# Altium schematic symbol library Ultrascale_SchLib.SchLib: 186 symbols (part 4 of 4)
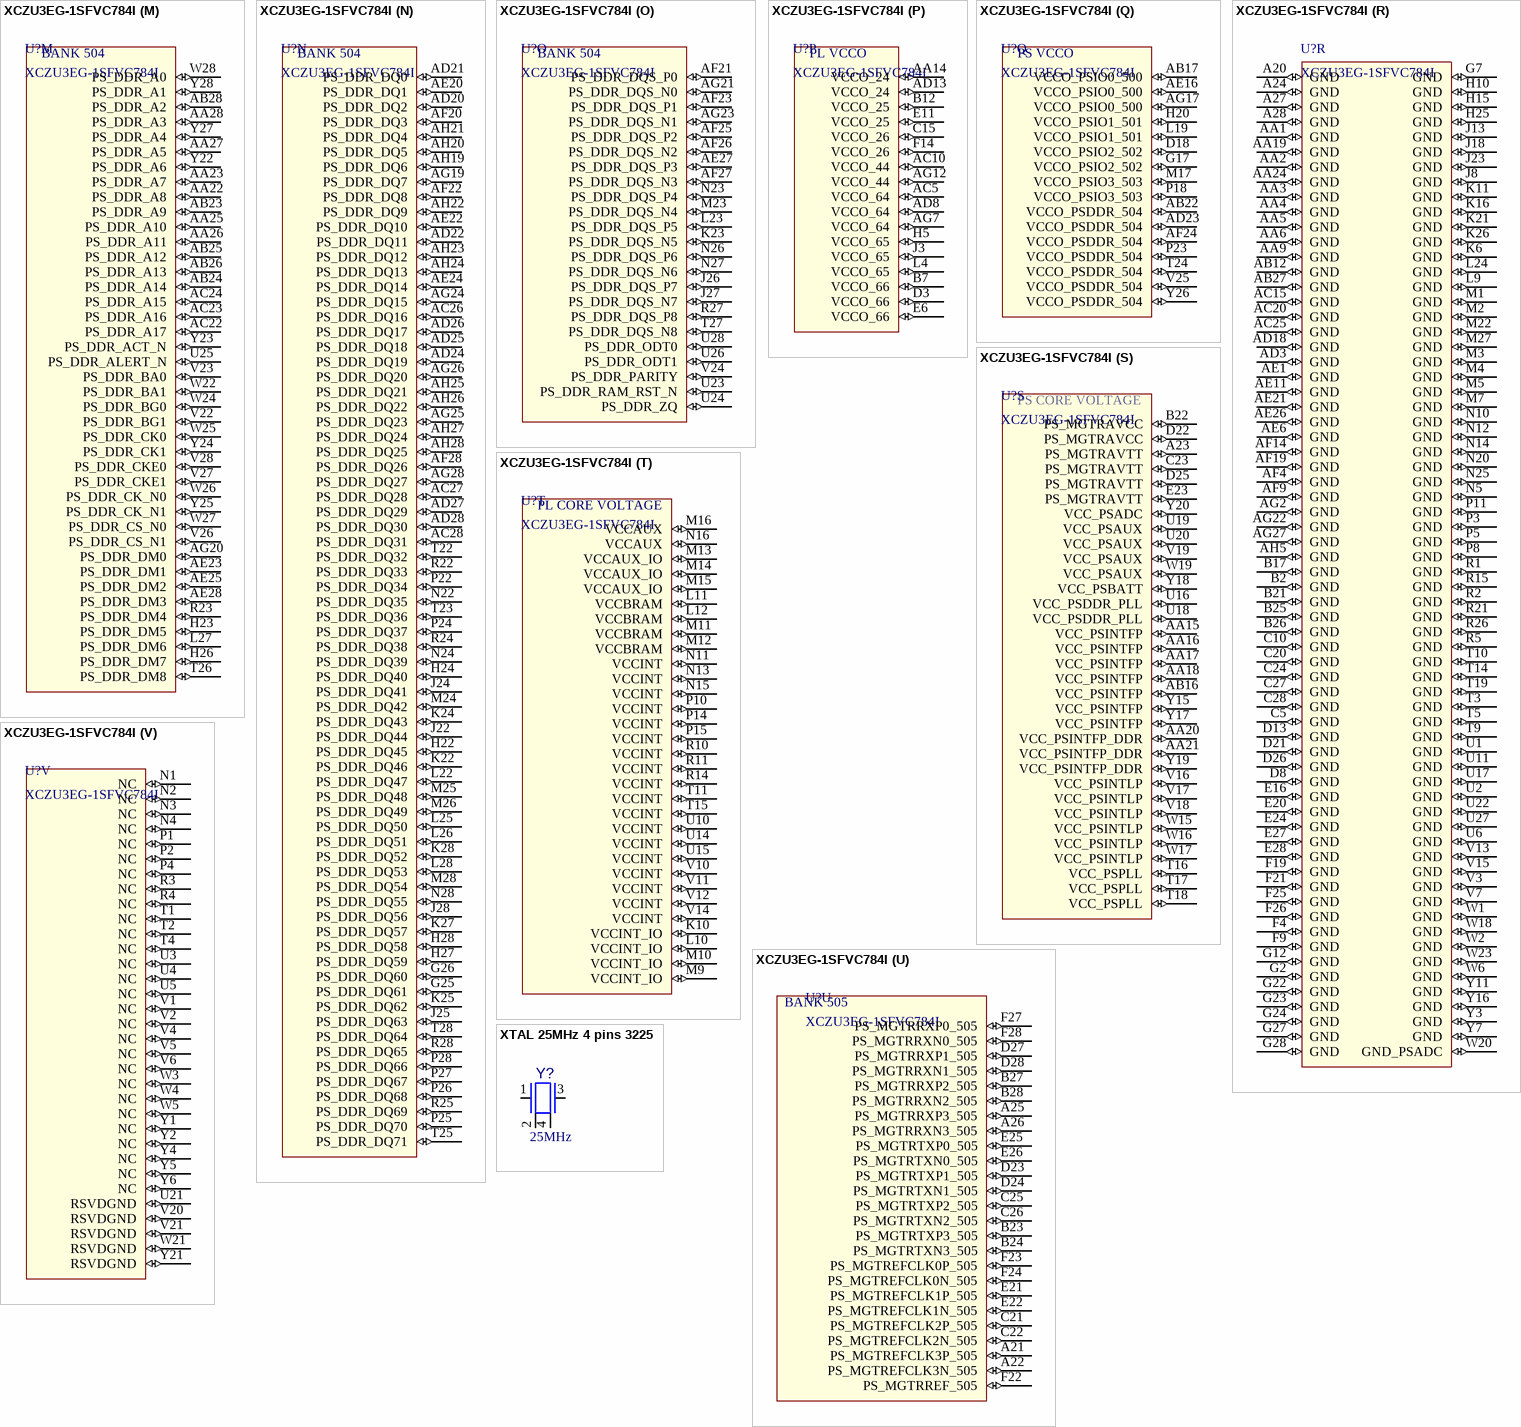
[diagram p11: symbols XCZU3EG-1SFVC784I to XTAL 25MHz 4 pins 3225]

## XCZU3EG-1SFVC784I
designator U?
IC FPGA 252 I/O 784FCBGA - XILINX ZYNQ ULTRASCALE+; Manufacturer 1: Xilinx Inc.; Package: SFVC784; ComponentLink1Description: Datasheet; Supplier 1: Digi-Key; Supplier Part Number 1: XCZU3EG-1SFVC784I-ND; Manufacturer Part Number 1: XCZU3EG-1SFVC784I
footprint BGA784x28
part A pins: P12 VCCADC (io), P13 GNDADC (io), R12 VREFN (io), R13 VP (io), T12 VN (io), T13 VREFP (io), U7 PUDC_B (io), U12 DXN (io), U13 DXP (io), W7 POR_OVERRIDE (io)
part B pins: A13 IO_L3N_AD9N_26 (io), A14 IO_L2N_AD10N_26 (io), A15 IO_L1N_AD11N_26 (io), B13 IO_L3P_AD9P_26 (io), B14 IO_L2P_AD10P_26 (io), B15 IO_L1P_AD11P_26 (io), C13 IO_L4N_AD8N_26 (io), C14 IO_L4P_AD8P_26 (io), D14 IO_L5N_HDGC_AD7N_26 (io), D15 IO_L5P_HDGC_AD7P_26 (io), E13 IO_L6N_HDGC_AD6N_26 (io), E14 IO_L6P_HDGC_AD6P_26 (io), E15 IO_L8N_HDGC_AD4N_26 (io), F13 IO_L7N_HDGC_AD5N_26 (io), F15 IO_L8P_HDGC_AD4P_26 (io), G13 IO_L7P_HDGC_AD5P_26 (io), G14 IO_L9N_AD3N_26 (io), G15 IO_L9P_AD3P_26 (io), H13 IO_L10N_AD2N_26 (io), H14 IO_L10P_AD2P_26 (io), J14 IO_L11N_AD1N_26 (io), K14 IO_L11P_AD1P_26 (io), L13 IO_L12N_AD0N_26 (io), L14 IO_L12P_AD0P_26 (io)
part C pins: A10 IO_L10N_AD10N_25 (io), A11 IO_L11N_AD9N_25 (io), A12 IO_L11P_AD9P_25 (io), B10 IO_L9N_AD11N_25 (io), B11 IO_L10P_AD10P_25 (io), C11 IO_L9P_AD11P_25 (io), C12 IO_L12N_AD8N_25 (io), D10 IO_L7N_HDGC_25 (io), D11 IO_L8N_HDGC_25 (io), D12 IO_L12P_AD8P_25 (io), E10 IO_L7P_HDGC_25 (io), E12 IO_L8P_HDGC_25 (io), F10 IO_L5N_HDGC_25 (io), F11 IO_L6N_HDGC_25 (io), F12 IO_L6P_HDGC_25 (io), G10 IO_L3N_AD13N_25 (io), G11 IO_L5P_HDGC_25 (io), H11 IO_L3P_AD13P_25 (io), H12 IO_L4N_AD12N_25 (io), J10 IO_L1N_AD15N_25 (io), J11 IO_L1P_AD15P_25 (io), J12 IO_L4P_AD12P_25 (io), K12 IO_L2N_AD14N_25 (io), K13 IO_L2P_AD14P_25 (io)
part D pins: AA12 IO_L12N_AD8N_24 (io), AA13 IO_L7P_HDGC_24 (io), AB13 IO_L7N_HDGC_24 (io), AB14 IO_L8N_HDGC_24 (io), AB15 IO_L8P_HDGC_24 (io), AC13 IO_L6N_HDGC_24 (io), AC14 IO_L6P_HDGC_24 (io), AD14 IO_L5N_HDGC_24 (io), AD15 IO_L5P_HDGC_24 (io), AE13 IO_L4P_AD12P_24 (io), AE14 IO_L1N_AD15N_24 (io), AE15 IO_L1P_AD15P_24 (io), AF13 IO_L4N_AD12N_24 (io), AG13 IO_L3P_AD13P_24 (io), AG14 IO_L2P_AD14P_24 (io), AH13 IO_L3N_AD13N_24 (io), AH14 IO_L2N_AD14N_24 (io), W11 IO_L11N_AD9N_24 (io), W12 IO_L11P_AD9P_24 (io), W13 IO_L9N_AD11N_24 (io), W14 IO_L9P_AD11P_24 (io), Y12 IO_L12P_AD8P_24 (io), Y13 IO_L10N_AD10N_24 (io), Y14 IO_L10P_AD10P_24 (io)
part E pins: AA8 IO_L11N_AD1N_44 (io), AA10 IO_L9N_AD3N_44 (io), AA11 IO_L9P_AD3P_44 (io), AB9 IO_L12N_AD0N_44 (io), AB10 IO_L12P_AD0P_44 (io), AB11 IO_L8P_HDGC_AD4P_44 (io), AC11 IO_L8N_HDGC_AD4N_44 (io), AC12 IO_L6P_HDGC_AD6P_44 (io), AD10 IO_L7N_HDGC_AD5N_44 (io), AD11 IO_L7P_HDGC_AD5P_44 (io), AD12 IO_L6N_HDGC_AD6N_44 (io), AE10 IO_L4P_AD8P_44 (io), AE12 IO_L5P_HDGC_AD7P_44 (io), AF10 IO_L4N_AD8N_44 (io), AF11 IO_L2P_AD10P_44 (io), AF12 IO_L5N_HDGC_AD7N_44 (io), AG10 IO_L1P_AD11P_44 (io), AG11 IO_L2N_AD10N_44 (io), AH10 IO_L1N_AD11N_44 (io), AH11 IO_L3N_AD9N_44 (io), AH12 IO_L3P_AD9P_44 (io), W10 IO_L10P_AD2P_44 (io), Y9 IO_L11P_AD1P_44 (io), Y10 IO_L10N_AD2N_44 (io)
part F pins: A1 IO_L8N_T1L_N3_AD5N_66 (io), A2 IO_L8P_T1L_N2_AD5P_66 (io), A3 IO_L9N_T1L_N5_AD12N_66 (io), A4 IO_L10N_T1U_N7_QBC_AD4N_66 (io), A5 IO_L19N_T3L_N1_DBC_AD9N_66 (io), A6 IO_L21N_T3L_N5_AD8N_66 (io), A7 IO_L21P_T3L_N4_AD8P_66 (io), A8 IO_L23N_T3U_N9_66 (io), A9 IO_L23P_T3U_N8_66 (io), B1 IO_L7N_T1L_N1_QBC_AD13N_66 (io), B3 IO_L9P_T1L_N4_AD12P_66 (io), B4 IO_L10P_T1U_N6_QBC_AD4P_66 (io), B5 IO_L19P_T3L_N0_DBC_AD9P_66 (io), B6 IO_L20N_T3L_N3_AD1N_66 (io), B8 IO_L22N_T3U_N7_DBC_AD0N_66 (io), B9 IO_L24N_T3U_N11_66 (io), C1 IO_L7P_T1L_N0_QBC_AD13P_66 (io), C2 IO_L12N_T1U_N11_GC_66 (io), C3 IO_L12P_T1U_N10_GC_66 (io), C4 IO_L11N_T1U_N9_GC_66 (io), C6 IO_L20P_T3L_N2_AD1P_66 (io), C7 IO_T3U_N12_66 (io), C8 IO_L22P_T3U_N6_DBC_AD0P_66 (io), C9 IO_L24P_T3U_N10_66 (io), D1 IO_L2N_T0L_N3_66 (io), D2 IO_T1U_N12_66 (io), D4 IO_L11P_T1U_N8_GC_66 (io), D5 IO_L14N_T2L_N3_GC_66 (io), D6 IO_L13N_T2L_N1_GC_QBC_66 (io), D7 IO_L13P_T2L_N0_GC_QBC_66 (io), D9 IO_L18N_T2U_N11_AD2N_66 (io), E1 IO_L2P_T0L_N2_66 (io), E2 IO_L3N_T0L_N5_AD15N_66 (io), E3 IO_L5N_T0U_N9_AD14N_66 (io), E4 IO_L5P_T0U_N8_AD14P_66 (io), E5 IO_L14P_T2L_N2_GC_66 (io), E7 IO_T2U_N12_66 (io), E8 IO_L17N_T2U_N9_AD10N_66 (io), E9 IO_L18P_T2U_N10_AD2P_66 (io), F1 IO_L1N_T0L_N1_DBC_66 (io), F2 IO_L3P_T0L_N4_AD15P_66 (io), F3 IO_L4N_T0U_N7_DBC_AD7N_66 (io), F5 IO_L6N_T0U_N11_AD6N_66 (io), F6 IO_L15N_T2L_N5_AD11N_66 (io), F7 IO_L16N_T2U_N7_QBC_AD3N_66 (io), F8 IO_L17P_T2U_N8_AD10P_66 (io), G1 IO_L1P_T0L_N0_DBC_66 (io), G3 IO_L4P_T0U_N6_DBC_AD7P_66 (io), G4 IO_T0U_N12_VRP_66 (io), G5 IO_L6P_T0U_N10_AD6P_66 (io), G6 IO_L15P_T2L_N4_AD11P_66 (io), G8 IO_L16P_T2U_N6_QBC_AD3P_66 (io), G9 VREF_66 (io)
part G pins: H1 IO_L8N_T1L_N3_AD5N_65 (io), H2 IO_T1U_N12_65 (io), H3 IO_L10N_T1U_N7_QBC_AD4N_65 (io), H4 IO_L10P_T1U_N6_QBC_AD4P_65 (io), H6 IO_L20N_T3L_N3_AD1N_65 (io), H7 IO_L21N_T3L_N5_AD8N_65 (io), H8 IO_L24N_T3U_N11_PERSTN0_65 (io), H9 IO_L24P_T3U_N10_PERSTN1_I2C_SDA_65 (io), J1 IO_L8P_T1L_N2_AD5P_65 (io), J2 IO_L9N_T1L_N5_AD12N_65 (io), J4 IO_L19N_T3L_N1_DBC_AD9N_65 (io), J5 IO_L19P_T3L_N0_DBC_AD9P_65 (io), J6 IO_L20P_T3L_N2_AD1P_65 (io), J7 IO_L21P_T3L_N4_AD8P_65 (io), J9 IO_L23N_T3U_N9_65 (io), K1 IO_L7N_T1L_N1_QBC_AD13N_65 (io), K2 IO_L9P_T1L_N4_AD12P_65 (io), K3 IO_L11N_T1U_N9_GC_65 (io), K4 IO_L11P_T1U_N8_GC_65 (io), K5 IO_T3U_N12_65 (io), K7 IO_L22N_T3U_N7_DBC_AD0N_65 (io), K8 IO_L22P_T3U_N6_DBC_AD0P_65 (io), K9 IO_L23P_T3U_N8_I2C_SCLK_65 (io), L1 IO_L7P_T1L_N0_QBC_AD13P_65 (io), L2 IO_L12N_T1U_N11_GC_65 (io), L3 IO_L12P_T1U_N10_GC_65 (io), L5 IO_L14N_T2L_N3_GC_65 (io), L6 IO_L13N_T2L_N1_GC_QBC_65 (io), L7 IO_L13P_T2L_N0_GC_QBC_65 (io), L8 IO_L18N_T2U_N11_AD2N_65 (io), M6 IO_L14P_T2L_N2_GC_65 (io), M8 IO_L18P_T2U_N10_AD2P_65 (io), N6 IO_L15N_T2L_N5_AD11N_65 (io), N7 IO_L15P_T2L_N4_AD11P_65 (io), N8 IO_L17N_T2U_N9_AD10N_65 (io), N9 IO_L17P_T2U_N8_AD10P_65 (io), P6 IO_L16N_T2U_N7_QBC_AD3N_65 (io), P7 IO_L16P_T2U_N6_QBC_AD3P_65 (io), P9 IO_T2U_N12_65 (io), R6 IO_L6P_T0U_N10_AD6P_65 (io), R7 IO_L5P_T0U_N8_AD14P_65 (io), R8 IO_L4P_T0U_N6_DBC_AD7P_SMBALERT_65 (io), R9 VREF_65 (io), T6 IO_L6N_T0U_N11_AD6N_65 (io), T7 IO_L5N_T0U_N9_AD14N_65 (io), T8 IO_L4N_T0U_N7_DBC_AD7N_65 (io), U8 IO_L3P_T0L_N4_AD15P_65 (io), U9 IO_L2P_T0L_N2_65 (io), V8 IO_L3N_T0L_N5_AD15N_65 (io), V9 IO_L2N_T0L_N3_65 (io), W8 IO_L1P_T0L_N0_DBC_65 (io), W9 IO_T0U_N12_VRP_65 (io), Y8 IO_L1N_T0L_N1_DBC_65 (io)
part H pins: AA7 VREF_64 (io), AB1 IO_L18P_T2U_N10_AD2P_64 (io), AB2 IO_L17P_T2U_N8_AD10P_64 (io), AB3 IO_L15N_T2L_N5_AD11N_64 (io), AB4 IO_L15P_T2L_N4_AD11P_64 (io), AB5 IO_T2U_N12_64 (io), AB6 IO_L6P_T0U_N10_AD6P_64 (io), AB7 IO_L5P_T0U_N8_AD14P_64 (io), AB8 IO_L3P_T0L_N4_AD15P_64 (io), AC1 IO_L18N_T2U_N11_AD2N_64 (io), AC2 IO_L17N_T2U_N9_AD10N_64 (io), AC3 IO_L14N_T2L_N3_GC_64 (io), AC4 IO_L14P_T2L_N2_GC_64 (io), AC6 IO_L6N_T0U_N11_AD6N_64 (io), AC7 IO_L5N_T0U_N9_AD14N_64 (io), AC8 IO_L3N_T0L_N5_AD15N_64 (io), AC9 IO_L1P_T0L_N0_DBC_64 (io), AD1 IO_L16N_T2U_N7_QBC_AD3N_64 (io), AD2 IO_L16P_T2U_N6_QBC_AD3P_64 (io), AD4 IO_L13N_T2L_N1_GC_QBC_64 (io), AD5 IO_L13P_T2L_N0_GC_QBC_64 (io), AD6 IO_T0U_N12_VRP_64 (io), AD7 IO_L4P_T0U_N6_DBC_AD7P_64 (io), AD9 IO_L1N_T0L_N1_DBC_64 (io), AE2 IO_L22P_T3U_N6_DBC_AD0P_64 (io), AE3 IO_L21P_T3L_N4_AD8P_64 (io), AE4 IO_T3U_N12_64 (io), AE5 IO_L12P_T1U_N10_GC_64 (io), AE7 IO_L4N_T0U_N7_DBC_AD7N_64 (io), AE8 IO_L2N_T0L_N3_64 (io), AE9 IO_L2P_T0L_N2_64 (io), AF1 IO_L24P_T3U_N10_64 (io), AF2 IO_L22N_T3U_N7_DBC_AD0N_64 (io), AF3 IO_L21N_T3L_N5_AD8N_64 (io), AF5 IO_L12N_T1U_N11_GC_64 (io), AF6 IO_L11N_T1U_N9_GC_64 (io), AF7 IO_L11P_T1U_N8_GC_64 (io), AF8 IO_L8P_T1L_N2_AD5P_64 (io), AG1 IO_L24N_T3U_N11_64 (io), AG3 IO_L20P_T3L_N2_AD1P_64 (io), AG4 IO_L19P_T3L_N0_DBC_AD9P_64 (io), AG5 IO_L10N_T1U_N7_QBC_AD4N_64 (io), AG6 IO_L10P_T1U_N6_QBC_AD4P_64 (io), AG8 IO_L8N_T1L_N3_AD5N_64 (io), AG9 IO_L7P_T1L_N0_QBC_AD13P_64 (io), AH1 IO_L23N_T3U_N9_64 (io), AH2 IO_L23P_T3U_N8_64 (io), AH3 IO_L20N_T3L_N3_AD1N_64 (io), AH4 IO_L19N_T3L_N1_DBC_AD9N_64 (io), AH6 IO_T1U_N12_64 (io), AH7 IO_L9N_T1L_N5_AD12N_64 (io), AH8 IO_L9P_T1L_N4_AD12P_64 (io), AH9 IO_L7N_T1L_N1_QBC_AD13N_64 (io)
part I pins: AB18 PS_MIO23 (io), AB19 PS_MIO24 (io), AB20 PS_MIO22 (io), AB21 PS_MIO25 (io), AC16 PS_MIO9 (io), AC17 PS_MIO12 (io), AC18 PS_MIO17 (io), AC19 PS_MIO18 (io), AC21 PS_MIO21 (io), AD16 PS_MIO5 (io), AD17 PS_MIO10 (io), AD19 PS_MIO20 (io), AE17 PS_MIO11 (io), AE18 PS_MIO15 (io), AE19 PS_MIO19 (io), AF15 PS_MIO2 (io), AF16 PS_MIO6 (io), AF17 PS_MIO8 (io), AF18 PS_MIO16 (io), AG15 PS_MIO0 (io), AG16 PS_MIO1 (io), AG18 PS_MIO14 (io), AH15 PS_MIO3 (io), AH16 PS_MIO4 (io), AH17 PS_MIO7 (io), AH18 PS_MIO13 (io)
part J pins: F16 PS_MIO30 (io), G16 PS_MIO29 (io), H16 PS_MIO31 (io), H17 PS_MIO35 (io), H18 PS_MIO38 (io), H19 PS_MIO39 (io), H21 PS_MIO47 (io), J15 PS_MIO27 (io), J16 PS_MIO32 (io), J17 PS_MIO37 (io), J19 PS_MIO41 (io), J20 PS_MIO44 (io), J21 PS_MIO48 (io), K15 PS_MIO28 (io), K17 PS_MIO36 (io), K18 PS_MIO40 (io), K19 PS_MIO43 (io), K20 PS_MIO45 (io), L15 PS_MIO26 (io), L16 PS_MIO33 (io), L17 PS_MIO34 (io), L18 PS_MIO42 (io), L20 PS_MIO46 (io), L21 PS_MIO51 (io), M18 PS_MIO49 (io), M19 PS_MIO50 (io)
part K pins: A16 PS_MIO57 (io), A17 PS_MIO62 (io), A18 PS_MIO65 (io), A19 PS_MIO75 (io), B16 PS_MIO55 (io), B18 PS_MIO67 (io), B19 PS_MIO71 (io), B20 PS_MIO76 (io), C16 PS_MIO56 (io), C17 PS_MIO60 (io), C18 PS_MIO68 (io), C19 PS_MIO70 (io), D16 PS_MIO53 (io), D17 PS_MIO61 (io), D19 PS_MIO69 (io), D20 PS_MIO74 (io), E17 PS_MIO59 (io), E18 PS_MIO63 (io), E19 PS_MIO64 (io), F17 PS_MIO54 (io), F18 PS_MIO58 (io), F20 PS_MIO77 (io), G18 PS_MIO52 (io), G19 PS_MIO66 (io), G20 PS_MIO72 (io), G21 PS_MIO73 (io)
part L pins: M20 PS_ERROR_STATUS (io), M21 PS_DONE (io), N17 PS_PADI (io), N18 PS_PADO (io), N19 PS_SRST_B (io), N21 PS_JTAG_TMS (io), P16 PS_POR_B (io), P17 PS_ERROR_OUT (io), P19 PS_MODE0 (io), P20 PS_MODE1 (io), P21 PS_INIT_B (io), R16 PS_REF_CLK (io), R17 PS_PROG_B (io), R18 PS_JTAG_TDI (io), R19 PS_JTAG_TCK (io), R20 PS_MODE2 (io), T20 PS_MODE3 (io), T21 PS_JTAG_TDO (io)
part M pins: AA22 PS_DDR_A8 (io), AA23 PS_DDR_A7 (io), AA25 PS_DDR_A10 (io), AA26 PS_DDR_A11 (io), AA27 PS_DDR_A5 (io), AA28 PS_DDR_A3 (io), AB23 PS_DDR_A9 (io), AB24 PS_DDR_A14 (io), AB25 PS_DDR_A12 (io), AB26 PS_DDR_A13 (io), AB28 PS_DDR_A2 (io), AC22 PS_DDR_A17 (io), AC23 PS_DDR_A16 (io), AC24 PS_DDR_A15 (io), AE23 PS_DDR_DM1 (io), AE25 PS_DDR_DM2 (io), AE28 PS_DDR_DM3 (io), AG20 PS_DDR_DM0 (io), H23 PS_DDR_DM5 (io), H26 PS_DDR_DM7 (io), L27 PS_DDR_DM6 (io), R23 PS_DDR_DM4 (io), T26 PS_DDR_DM8 (io), U25 PS_DDR_ALERT_N (io), V22 PS_DDR_BG1 (io), V23 PS_DDR_BA0 (io), V26 PS_DDR_CS_N1 (io), V27 PS_DDR_CKE1 (io), V28 PS_DDR_CKE0 (io), W22 PS_DDR_BA1 (io), W24 PS_DDR_BG0 (io), W25 PS_DDR_CK0 (io), W26 PS_DDR_CK_N0 (io), W27 PS_DDR_CS_N0 (io), W28 PS_DDR_A0 (io), Y22 PS_DDR_A6 (io), Y23 PS_DDR_ACT_N (io), Y24 PS_DDR_CK1 (io), Y25 PS_DDR_CK_N1 (io), Y27 PS_DDR_A4 (io), Y28 PS_DDR_A1 (io)
part N pins: AC26 PS_DDR_DQ16 (io), AC27 PS_DDR_DQ28 (io), AC28 PS_DDR_DQ31 (io), AD20 PS_DDR_DQ2 (io), AD21 PS_DDR_DQ0 (io), AD22 PS_DDR_DQ11 (io), AD24 PS_DDR_DQ19 (io), AD25 PS_DDR_DQ18 (io), AD26 PS_DDR_DQ17 (io), AD27 PS_DDR_DQ29 (io), AD28 PS_DDR_DQ30 (io), AE20 PS_DDR_DQ1 (io), AE22 PS_DDR_DQ10 (io), AE24 PS_DDR_DQ14 (io), AF20 PS_DDR_DQ3 (io), AF22 PS_DDR_DQ8 (io), AF28 PS_DDR_DQ26 (io), AG19 PS_DDR_DQ7 (io), AG24 PS_DDR_DQ15 (io), AG25 PS_DDR_DQ23 (io), AG26 PS_DDR_DQ20 (io), AG28 PS_DDR_DQ27 (io), AH19 PS_DDR_DQ6 (io), AH20 PS_DDR_DQ5 (io), AH21 PS_DDR_DQ4 (io), AH22 PS_DDR_DQ9 (io), AH23 PS_DDR_DQ12 (io), AH24 PS_DDR_DQ13 (io), AH25 PS_DDR_DQ21 (io), AH26 PS_DDR_DQ22 (io), AH27 PS_DDR_DQ24 (io), AH28 PS_DDR_DQ25 (io), G25 PS_DDR_DQ61 (io), G26 PS_DDR_DQ60 (io), H22 PS_DDR_DQ45 (io), H24 PS_DDR_DQ40 (io), H27 PS_DDR_DQ59 (io), H28 PS_DDR_DQ58 (io), J22 PS_DDR_DQ44 (io), J24 PS_DDR_DQ41 (io), J25 PS_DDR_DQ63 (io), J28 PS_DDR_DQ56 (io), K22 PS_DDR_DQ46 (io), K24 PS_DDR_DQ43 (io), K25 PS_DDR_DQ62 (io), K27 PS_DDR_DQ57 (io), K28 PS_DDR_DQ52 (io), L22 PS_DDR_DQ47 (io), L25 PS_DDR_DQ50 (io), L26 PS_DDR_DQ51 (io), L28 PS_DDR_DQ53 (io), M24 PS_DDR_DQ42 (io), M25 PS_DDR_DQ48 (io), M26 PS_DDR_DQ49 (io), M28 PS_DDR_DQ54 (io), N22 PS_DDR_DQ35 (io), N24 PS_DDR_DQ39 (io), N28 PS_DDR_DQ55 (io), P22 PS_DDR_DQ34 (io), P24 PS_DDR_DQ37 (io), P25 PS_DDR_DQ70 (io), P26 PS_DDR_DQ68 (io), P27 PS_DDR_DQ67 (io), P28 PS_DDR_DQ66 (io), R22 PS_DDR_DQ33 (io), R24 PS_DDR_DQ38 (io), R25 PS_DDR_DQ69 (io), R28 PS_DDR_DQ65 (io), T22 PS_DDR_DQ32 (io), T23 PS_DDR_DQ36 (io), T25 PS_DDR_DQ71 (io), T28 PS_DDR_DQ64 (io)
part O pins: AE27 PS_DDR_DQS_P3 (io), AF21 PS_DDR_DQS_P0 (io), AF23 PS_DDR_DQS_P1 (io), AF25 PS_DDR_DQS_P2 (io), AF26 PS_DDR_DQS_N2 (io), AF27 PS_DDR_DQS_N3 (io), AG21 PS_DDR_DQS_N0 (io), AG23 PS_DDR_DQS_N1 (io), J26 PS_DDR_DQS_P7 (io), J27 PS_DDR_DQS_N7 (io), K23 PS_DDR_DQS_N5 (io), L23 PS_DDR_DQS_P5 (io), M23 PS_DDR_DQS_N4 (io), N23 PS_DDR_DQS_P4 (io), N26 PS_DDR_DQS_P6 (io), N27 PS_DDR_DQS_N6 (io), R27 PS_DDR_DQS_P8 (io), T27 PS_DDR_DQS_N8 (io), U23 PS_DDR_RAM_RST_N (io), U24 PS_DDR_ZQ (io), U26 PS_DDR_ODT1 (io), U28 PS_DDR_ODT0 (io), V24 PS_DDR_PARITY (io)
part P pins: AA14 VCCO_24 (io), AC5 VCCO_64 (io), AC10 VCCO_44 (io), AD8 VCCO_64 (io), AD13 VCCO_24 (io), AG7 VCCO_64 (io), AG12 VCCO_44 (io), B7 VCCO_66 (io), B12 VCCO_25 (io), C15 VCCO_26 (io), D3 VCCO_66 (io), E6 VCCO_66 (io), E11 VCCO_25 (io), F14 VCCO_26 (io), H5 VCCO_65 (io), J3 VCCO_65 (io), L4 VCCO_65 (io)
part Q pins: AB17 VCCO_PSIO0_500 (io), AB22 VCCO_PSDDR_504 (io), AD23 VCCO_PSDDR_504 (io), AE16 VCCO_PSIO0_500 (io), AF24 VCCO_PSDDR_504 (io), AG17 VCCO_PSIO0_500 (io), D18 VCCO_PSIO2_502 (io), G17 VCCO_PSIO2_502 (io), H20 VCCO_PSIO1_501 (io), L19 VCCO_PSIO1_501 (io), M17 VCCO_PSIO3_503 (io), P18 VCCO_PSIO3_503 (io), P23 VCCO_PSDDR_504 (io), T24 VCCO_PSDDR_504 (io), V25 VCCO_PSDDR_504 (io), Y26 VCCO_PSDDR_504 (io)
part R pins: A20 GND (io), A24 GND (io), A27 GND (io), A28 GND (io), AA1 GND (io), AA2 GND (io), AA3 GND (io), AA4 GND (io), AA5 GND (io), AA6 GND (io), AA9 GND (io), AA19 GND (io), AA24 GND (io), AB12 GND (io), AB27 GND (io), AC15 GND (io), AC20 GND (io), AC25 GND (io), AD3 GND (io), AD18 GND (io), AE1 GND (io), AE6 GND (io), AE11 GND (io), AE21 GND (io), AE26 GND (io), AF4 GND (io), AF9 GND (io), AF14 GND (io), AF19 GND (io), AG2 GND (io), AG22 GND (io), AG27 GND (io), AH5 GND (io), B2 GND (io), B17 GND (io), B21 GND (io), B25 GND (io), B26 GND (io), C5 GND (io), C10 GND (io), C20 GND (io), C24 GND (io), C27 GND (io), C28 GND (io), D8 GND (io), D13 GND (io), D21 GND (io), D26 GND (io), E16 GND (io), E20 GND (io), E24 GND (io), E27 GND (io), E28 GND (io), F4 GND (io), F9 GND (io), F19 GND (io), F21 GND (io), F25 GND (io), F26 GND (io), G2 GND (io), G7 GND (io), G12 GND (io), G22 GND (io), G23 GND (io), G24 GND (io), G27 GND (io), G28 GND (io), H10 GND (io), H15 GND (io), H25 GND (io), J8 GND (io), J13 GND (io), J18 GND (io), J23 GND (io), K6 GND (io), K11 GND (io), K16 GND (io), K21 GND (io), K26 GND (io), L9 GND (io), L24 GND (io), M1 GND (io), M2 GND (io), M3 GND (io), M4 GND (io), M5 GND (io), M7 GND (io), M22 GND (io), M27 GND (io), N5 GND (io), N10 GND (io), N12 GND (io), N14 GND (io), N20 GND (io), N25 GND (io), P3 GND (io), P5 GND (io), P8 GND (io), P11 GND (io), R1 GND (io), R2 GND (io), R5 GND (io), R15 GND (io), R21 GND (io), R26 GND (io), T3 GND (io), T5 GND (io), T9 GND (io), T10 GND (io), T14 GND (io), T19 GND (io), U1 GND (io), U2 GND (io), U6 GND (io), U11 GND (io), U17 GND (io), U22 GND (io), U27 GND (io), V3 GND (io), V7 GND (io), V13 GND (io), V15 GND (io), W1 GND (io), W2 GND (io), W6 GND (io), W18 GND (io), W20 GND_PSADC (io), W23 GND (io), Y3 GND (io), Y7 GND (io), Y11 GND (io), Y16 GND (io)
part S pins: A23 PS_MGTRAVTT (io), AA15 VCC_PSINTFP (io), AA16 VCC_PSINTFP (io), AA17 VCC_PSINTFP (io), AA18 VCC_PSINTFP (io), AA20 VCC_PSINTFP_DDR (io), AA21 VCC_PSINTFP_DDR (io), AB16 VCC_PSINTFP (io), B22 PS_MGTRAVCC (io), C23 PS_MGTRAVTT (io), D22 PS_MGTRAVCC (io), D25 PS_MGTRAVTT (io), E23 PS_MGTRAVTT (io), T16 VCC_PSPLL (io), T17 VCC_PSPLL (io), T18 VCC_PSPLL (io), U16 VCC_PSDDR_PLL (io), U18 VCC_PSDDR_PLL (io), U19 VCC_PSAUX (io), U20 VCC_PSAUX (io), V16 VCC_PSINTLP (io), V17 VCC_PSINTLP (io), V18 VCC_PSINTLP (io), V19 VCC_PSAUX (io), W15 VCC_PSINTLP (io), W16 VCC_PSINTLP (io), W17 VCC_PSINTLP (io), W19 VCC_PSAUX (io), Y15 VCC_PSINTFP (io), Y17 VCC_PSINTFP (io), Y18 VCC_PSBATT (io), Y19 VCC_PSINTFP_DDR (io), Y20 VCC_PSADC (io)
part T pins: K10 VCCINT_IO (io), L10 VCCINT_IO (io), L11 VCCBRAM (io), L12 VCCBRAM (io), M9 VCCINT_IO (io), M10 VCCINT_IO (io), M11 VCCBRAM (io), M12 VCCBRAM (io), M13 VCCAUX_IO (io), M14 VCCAUX_IO (io), M15 VCCAUX_IO (io), M16 VCCAUX (io), N11 VCCINT (io), N13 VCCINT (io), N15 VCCINT (io), N16 VCCAUX (io), P10 VCCINT (io), P14 VCCINT (io), P15 VCCINT (io), R10 VCCINT (io), R11 VCCINT (io), R14 VCCINT (io), T11 VCCINT (io), T15 VCCINT (io), U10 VCCINT (io), U14 VCCINT (io), U15 VCCINT (io), V10 VCCINT (io), V11 VCCINT (io), V12 VCCINT (io), V14 VCCINT (io)
part U pins: A21 PS_MGTREFCLK3P_505 (io), A22 PS_MGTREFCLK3N_505 (io), A25 PS_MGTRRXP3_505 (io), A26 PS_MGTRRXN3_505 (io), B23 PS_MGTRTXP3_505 (io), B24 PS_MGTRTXN3_505 (io), B27 PS_MGTRRXP2_505 (io), B28 PS_MGTRRXN2_505 (io), C21 PS_MGTREFCLK2P_505 (io), C22 PS_MGTREFCLK2N_505 (io), C25 PS_MGTRTXP2_505 (io), C26 PS_MGTRTXN2_505 (io), D23 PS_MGTRTXP1_505 (io), D24 PS_MGTRTXN1_505 (io), D27 PS_MGTRRXP1_505 (io), D28 PS_MGTRRXN1_505 (io), E21 PS_MGTREFCLK1P_505 (io), E22 PS_MGTREFCLK1N_505 (io), E25 PS_MGTRTXP0_505 (io), E26 PS_MGTRTXN0_505 (io), F22 PS_MGTRREF_505 (io), F23 PS_MGTREFCLK0P_505 (io), F24 PS_MGTREFCLK0N_505 (io), F27 PS_MGTRRXP0_505 (io), F28 PS_MGTRRXN0_505 (io)
part V pins: N1 NC (io), N2 NC (io), N3 NC (io), N4 NC (io), P1 NC (io), P2 NC (io), P4 NC (io), R3 NC (io), R4 NC (io), T1 NC (io), T2 NC (io), T4 NC (io), U3 NC (io), U4 NC (io), U5 NC (io), U21 RSVDGND (io), V1 NC (io), V2 NC (io), V4 NC (io), V5 NC (io), V6 NC (io), V20 RSVDGND (io), V21 RSVDGND (io), W3 NC (io), W4 NC (io), W5 NC (io), W21 RSVDGND (io), Y1 NC (io), Y2 NC (io), Y4 NC (io), Y5 NC (io), Y6 NC (io), Y21 RSVDGND (io)
part A text: BANK 0
part B text: BANK 26
part C text: BANK 25
part D text: BANK 24
part E text: BANK 44
part F text: BANK 66
part G text: BANK 65
part H text: BANK 64
part I text: BANK 500
part J text: BANK 501
part K text: BANK 502
part L text: BANK 503
part M text: BANK 504
part N text: BANK 504
part O text: BANK 504
part P text: PL VCCO
part Q text: PS VCCO
part S text: PS CORE VOLTAGE
part T text: PL CORE VOLTAGE
part U text: BANK 505

## XTAL 25MHz 4 pins 3225
designator Y?  Frequency: 25MHz  (hidden comment: XTAL 25MHz 4 pins 3225)
Crystal 25MHz 4 pins 3225; Manufacturer 1: Murata Electronics North America; Manufacturer Part Number 1: ABM8G-25.000MHZ-B4Y-T; Frequency Stability: ±20ppm; Frequency Tolerance: ±30ppm; Load Capacitance: 6pF; Operating Mode: Fundamental; Populated: Yes; Description_: Crystal 25MHz 6pF SMD 4Pin DFN LCC; Revision: A; RoHS: RoHS Compliant; Category: Crystals and Oscillators; Packaging: Cut Tape (CT); Type: MHz Crystal; Operating Temperature: -30°C ~ 85°C; Package / Case: 4-SMD, No Lead (DFN, LCC); Size / Dimension: 3.2 mm x 2.5mm; ComponentLink1URL: http://search.murata.co.jp/Ceramy/image/img/w_hinm/; ComponentLink1Description: http://search.murata.co.jp/Ceramy/image/img/w_hinm/; Supplier 1: Mouser; Supplier Part Number 1: 815-ABM8G-25-B4Y-T
footprint XTAL_4PIN_3M2X2M5 (Footprint not found)
pins: 1 Osc1, 2 GND (power), 3 Osc2, 4 GND (power)